# Altium footprint library TPD4E05U06QDQARQ1.PcbLib: 1 footprints
Each footprint in its own frame and in the unit in brackets; x right, y up, seen from the top. Pads: shape width x height; smd on the part's side, far side on the other; paste and mask are expansions set on the pad; w line width, h text height; cw(c..) or ccw(c..) is an arc to the next point about the centre after c.
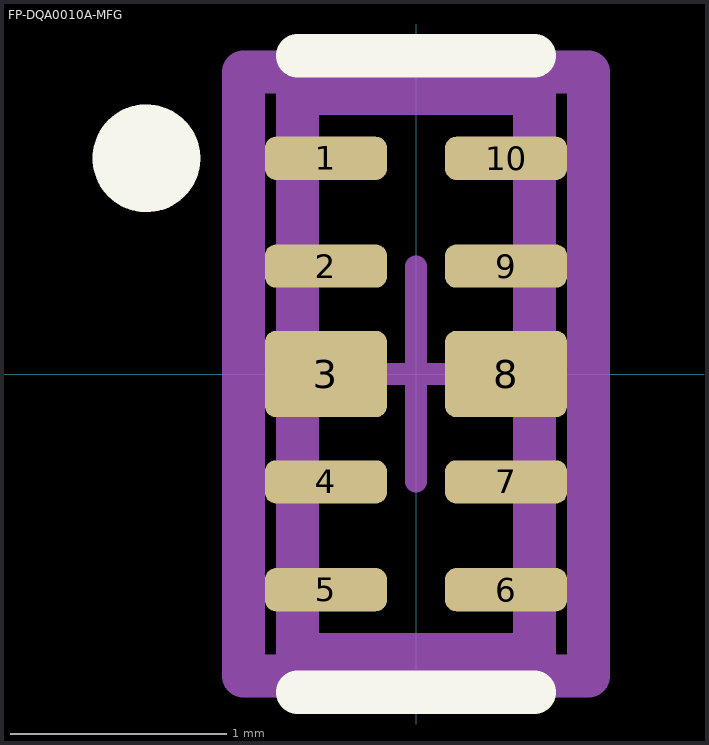
[diagram p0: the footprint, top view; thin cyan lines are the x and y axes]

## FP-DQA0010A-MFG [mm]
pads (10):
  rrect50% 0.565x0.2 smd paste+0 mask+0: 1(-0.417,1) 2(-0.417,0.5) 4(-0.417,-0.5) 5(-0.417,-1) 6(0.417,-1) 7(0.417,-0.5) 9(0.417,0.5) 10(0.417,1)
  rrect25% 0.565x0.4 smd paste-1000 mask+0: 3(-0.417,0) 8(0.417,0)
Top Overlay:
  circle w0.25: c-1.25,1 r0.125
  lines w0.2: -0.55,-1.475 0.55,-1.475 ; -0.55,1.475 0.55,1.475
Top Paste:
  region: 0.7,0.13 0.7,-0.13 0.7,-0.14 0.692,-0.158 0.678,-0.172 0.66,-0.18 0.65,-0.18 0.185,-0.18 0.175,-0.18 0.157,-0.172 0.143,-0.158 0.135,-0.14 0.135,-0.13 0.135,0.13 0.135,0.14 0.143,0.158 0.157,0.172 0.175,0.18 0.185,0.18 0.65,0.18 0.66,0.18 0.678,0.172 0.692,0.158 0.7,0.14
  region: -0.65,-0.18 -0.66,-0.18 -0.678,-0.172 -0.692,-0.158 -0.7,-0.14 -0.7,-0.13 -0.7,0.13 -0.7,0.14 -0.692,0.158 -0.678,0.172 -0.66,0.18 -0.65,0.18 -0.185,0.18 -0.175,0.18 -0.157,0.172 -0.143,0.158 -0.135,0.14 -0.135,0.13 -0.135,-0.13 -0.135,-0.14 -0.143,-0.158 -0.157,-0.172 -0.175,-0.18 -0.185,-0.18
Top Assembly:
  lines w0.2: -0.8,-1.4 -0.8,1.4 0.8,1.4 0.8,-1.4 -0.8,-1.4
  text ".Designator" at 0,0.187 h1
Top 3D Body:
  lines w0.2: -0.55,-1.3 -0.55,1.3 0.55,1.3 0.55,-1.3 -0.55,-1.3
Top Courtyard:
  lines w0.2: -0.8,-1.4 -0.8,1.4 0.8,1.4 0.8,-1.4 -0.8,-1.4
Top Component Center:
  lines w0.1: -0.5,0 0.5,0 ; 0,-0.5 0,0.5
3D body "Diode_Texas_Instruments_ESD204DQAR_eec.STEP": height 0.25, standoff 0, extent -0.8,-1.4 0.8,1.4